# Altium integrated library PJ-050B.IntLib: 1 symbol
Pins are listed as number, name and electrical type; pins without a type are passive.

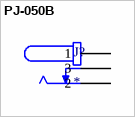
[diagram p0: symbol PJ-050B]

## PJ-050B
designator J?
2.5 mm Center Pin, 2.5 A, Right Angle, Through Hole, Pick-n-Place Top, Dc Power Jack Connector; MP: PJ-050B; Package: None; Value: *; Availability: Unavailable; Price: None
footprint CUI_PJ-050B
pins: 1, 2, 3